# Altium footprint library PcbLib.PcbLib: 16 footprints
Each footprint in its own frame and in the unit in brackets; x right, y up, seen from the top. Pads: shape width x height; smd on the part's side, far side on the other; paste and mask are expansions set on the pad; w line width, h text height; cw(c..) or ccw(c..) is an arc to the next point about the centre after c.
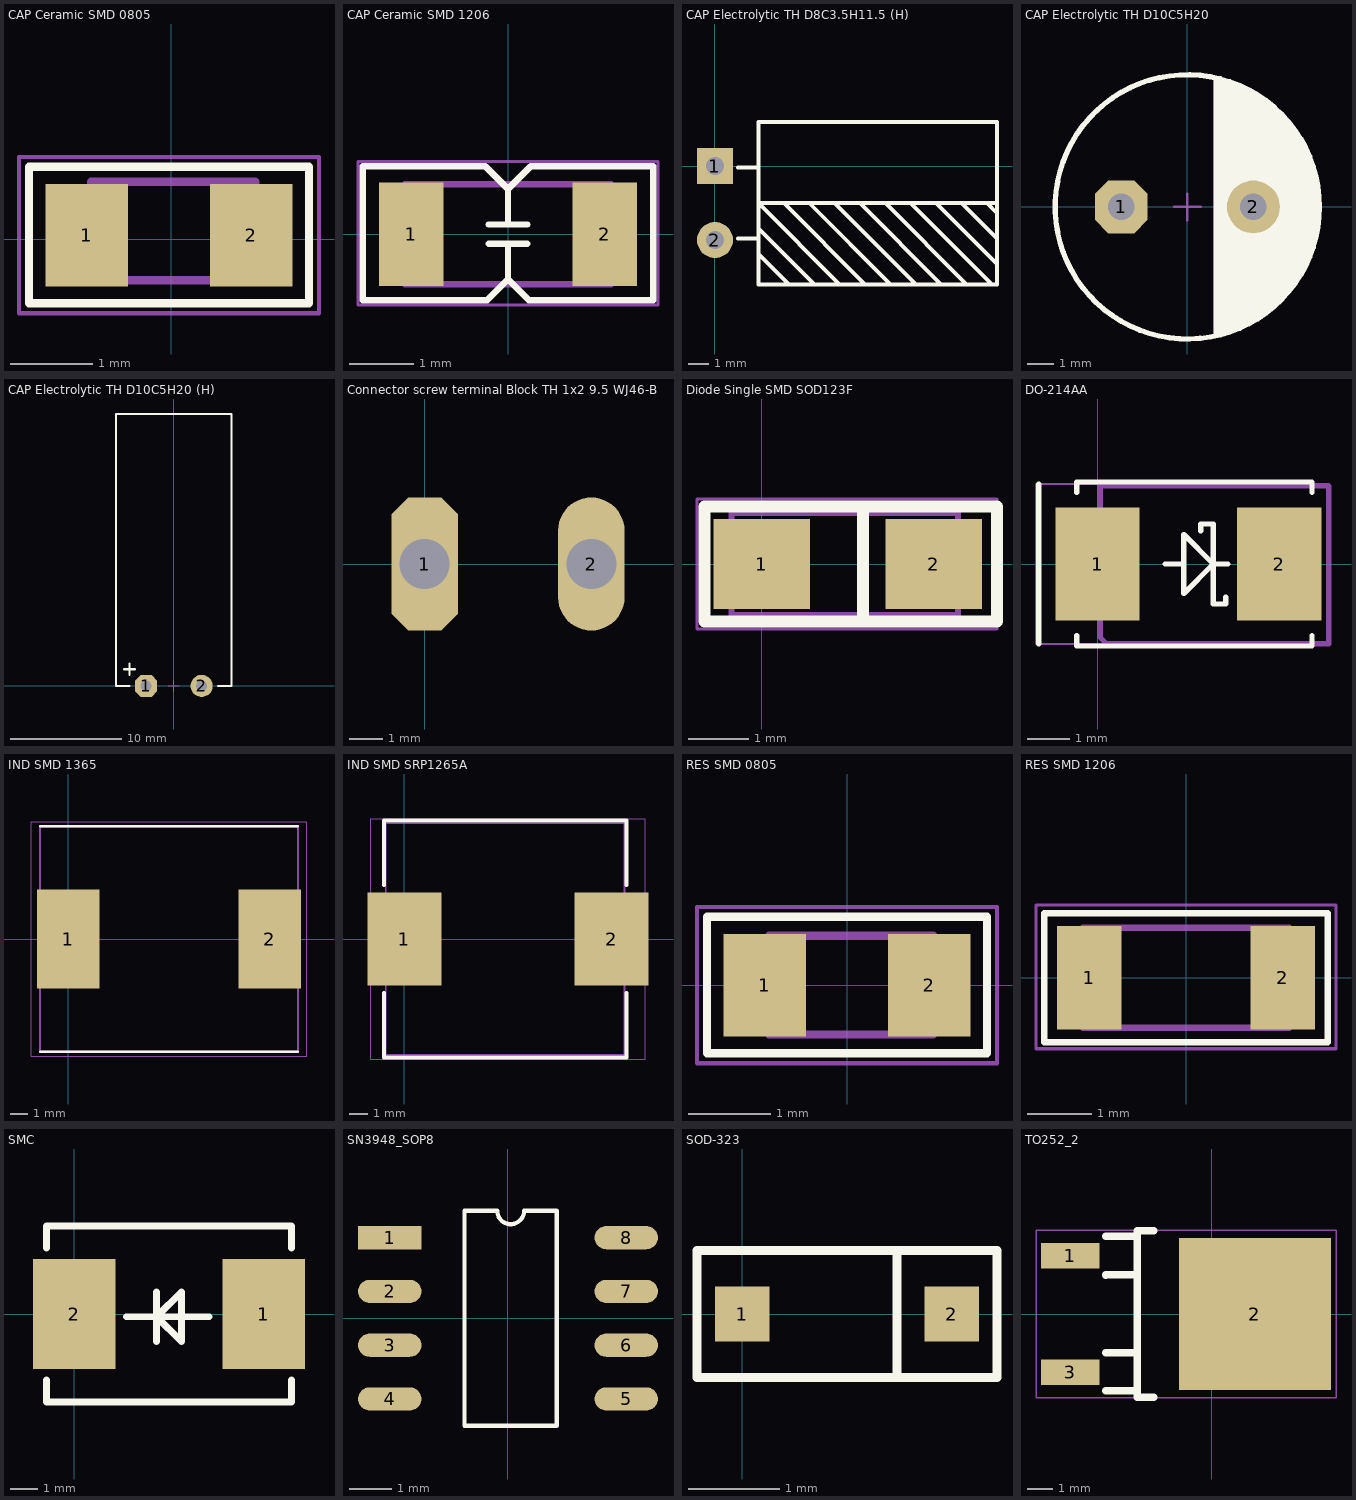
[diagram p0: the footprints below, top view; thin cyan lines are the x and y axes]

## CAP Ceramic SMD 0805 [mm]
height 0.45
pads (2):
  rect 1x1.25 smd: 1(-1.025,0.05) 2(0.975,0.05)
Top Overlay:
  lines w0.1: -1.727,-0.778 1.677,-0.778 1.677,0.881 -1.727,0.881 -1.727,-0.778
Top Designator:
  text ".Designator" at -1.125,-0.517 h1
Top 3D Body:
  lines w0.1: -0.974,-0.5 -0.974,0.7 1.025,0.7 1.025,-0.5 -0.974,-0.5
Top Courtyard:
  lines w0.05: -1.85,-0.9 -1.85,1 1.8,1 1.8,-0.9 -1.85,-0.9
3D body "SW3dPS-0805 SMD Capacitor.STEP": height 0.78, standoff 0, extent -1,-0.525 1,0.725

## CAP Ceramic SMD 1206 [mm]
height 0.6
pads (2):
  rect 1x1.6 smd: 1(-1.5,0) 2(1.5,0)
Top Overlay:
  lines w0.1: -0.3,-0.15 0.3,-0.15 ; -0.3,0.15 0.3,0.15 ; 0,-0.15 0,-0.7 ; 0,0.15 0,0.7 ; 0,-0.7 -0.325,-1.025 -2.25,-1.025 -2.25,1.05 -0.35,1.05 0,0.7 ; 0,-0.7 0.325,-1.025 2.25,-1.025 2.25,1.05 0.35,1.05 0,0.7
Top Designator:
  text ".Designator" at -1.5,-0.667 h1
Top 3D Body:
  lines w0.1: -1.6,-0.775 1.6,-0.775 1.6,0.775 -1.6,0.775 -1.6,-0.775
Top Courtyard:
  lines w0.05: -2.325,-1.1 -2.325,1.125 2.325,1.125 2.325,-1.1 -2.325,-1.1
3D body "SW3dPS-1206 SMD Capacitor.STEP": height 1, standoff 0, extent -1.6,-0.8 1.6,0.8

## CAP Electrolytic TH D8C3.5H11.5 (H) [mm]
pads (2):
  rect 1.8x1.8 hole 0.9: 1(0,0)
  round 1.8 hole 0.9: 2(0,-3.7)
Top Overlay:
  lines w0.2: 1.162,-3.628 2.178,-3.628 ; 1.162,-0.072 2.178,-0.072 ; 2.178,-4.39 3.702,-5.914 ; 2.178,-3.12 4.972,-5.914 ; 3.448,-1.85 7.512,-5.914 ; 4.718,-1.85 8.782,-5.914 ; 5.988,-1.85 10.052,-5.914 ; 6.242,-5.914 2.178,-1.85 14.116,-1.85 ; 7.258,-1.85 11.322,-5.914 ; 8.528,-1.85 12.592,-5.914 ; 9.798,-1.85 13.862,-5.914 ; 11.068,-1.85 14.116,-4.898 ; 12.338,-1.85 14.116,-3.628 ; 13.608,-1.85 14.116,-2.358 ; 2.178,-5.914 14.116,-5.914 14.116,2.214 2.178,2.214 2.178,-5.914
Top Designator:
  text ".Designator" at 1.556,-1.591 h1
3D body "CAP 3.5X8X11.5-H.STEP": height 8.03, standoff -2.62, extent -0.455,-5.899 13.255,2.1

## CAP Electrolytic TH D10C5H20 [mm]
height 20
pads (2):
  oct 2x2 hole 1: 1(-2.5,0)
  round 2 hole 1: 2(2.5,0)
Top Overlay:
  circle w0.2: c0,0 r5
  region: 1,-4.89 1,4.887 1.775,4.7 2.425,4.4 3,4 3.55,3.525 4.1,2.875 4.55,2.125 4.725,1.625 4.925,0.975 4.975,0.5 5,0 4.975,-0.5 4.825,-1.375 4.475,-2.25 4.2,-2.725 3.675,-3.425 3.2,-3.85 2.55,-4.275 1.875,-4.625 1.4,-4.8
Top Designator:
  text ".Designator" at -3.289,-0.094 h1
Top 3D Body:
  circle w0.1: c0,0 r5
  region: 1,-4.89 1,4.887 1.775,4.7 2.425,4.4 3,4 3.55,3.525 4.1,2.875 4.55,2.125 4.725,1.625 4.925,0.975 4.975,0.5 5,0 4.975,-0.5 4.825,-1.375 4.475,-2.25 4.2,-2.725 3.675,-3.425 3.2,-3.85 2.55,-4.275 1.875,-4.625 1.4,-4.8
Top Courtyard:
  circle w0.1: c0,0 r5
  lines w0.1: -0.5,0 0.5,0 ; 0,-0.5 0,0.5
3D body "User Library-CapAluRadial_D100H200.STEP": height 22, standoff -3, extent -5.25,-5.249 5.25,5.249

## CAP Electrolytic TH D10C5H20 (H) [mm]
height 20
pads (2):
  oct 2x2 hole 1: 1(-2.5,0)
  round 2 hole 1: 2(2.5,0)
Top Overlay:
  lines w0.2: -4.5,1.5 -3.5,1.5 ; -4,0 -5.2,0 -5.2,24.5 5.2,24.5 5.2,0 4,0 ; -4,1 -4,2
Top Designator:
  text ".Designator" at -2.4,-0.094 h1
Top Courtyard:
  lines w0.1: -0.5,0 0.5,0 ; 0,-0.5 0,0.5

## Connector screw terminal Block TH 1x2 9.5 WJ46-B [mm]
pads (2):
  oct 2x4 hole 1.5: 1(0,0)
  oval 2x4 hole 1.5: 2(5,0)
Top Designator:
  text ".Designator" at -5.218,-0.308 h1.52
Top 3D Body:
  text "2" at 4.6,-1.4 h2
  text "1" at -0.2,-0.6 h2

## Diode Single SMD SOD123F [mm]
height 1
pads (2):
  rect 1.6x1.5 smd: 1(0,0) 2(2.85,0)
Top Overlay:
  lines w0.2: 1.675,-0.9 1.675,0.925 ; -0.95,-0.95 3.9,-0.95 3.9,0.95 -0.95,0.95 -0.95,-0.95
Top Designator:
  text ".Designator" at -0.268,-0.783 h1.52
Top 3D Body:
  lines w0.1: 1.675,-0.85 1.675,0.85 ; -0.5,-0.85 3.25,-0.85 3.25,0.85 -0.5,0.85 -0.5,-0.85
Top Courtyard:
  lines w0.05: -1.075,-1.075 3.9,-1.075 3.9,1.075 -1.075,1.075 -1.075,-1.075
3D body "SOD123F.STEP": height 1.23, standoff 0.02, extent -0.5,-0.85 3.25,0.85

## DO-214AA [mm]
pads (2):
  rect 2x2.7 smd: 1(0,0) 2(4.32,0)
Top Overlay:
  lines w0.127: -1.4,-1.9 -1.4,1.9 ; -0.5,-1.7 -0.5,-1.953 5.1,-1.953 5.1,-1.7 ; -0.5,1.7 -0.5,1.953 5.1,1.953 5.1,1.7 ; 1.6,0 2.05,0 ; 2.453,0.791 2.45,0.794 2.45,0.95 2.75,0.95 ; 3.05,-0.789 3.05,-0.95 2.75,-0.95 2.75,0 ; 3.1,0 2.75,0 ; 2.05,0 2.05,-0.7 2.75,0 ; 2.05,0 2.05,0.7 ; 2.05,0 2.05,0.7 ; 2.05,0.7 2.75,0 ; 2.75,0 2.75,0.95 ; 2.75,0 2.75,0.95
Top Designator:
  text ".Designator" at -1.1,-0.314 h1.52
Top 3D Body:
  lines w0.127: 0.058,-1.743 0.215,-1.9 5.5,-1.9 5.5,1.857 0.058,1.857 0.058,-1.743
Top Courtyard:
  lines w0.05: -1.468,-1.902 1.008,-1.902 5.5,-1.902 ; -1.468,-1.9 -1.468,1.9 5.5,1.9 5.5,-1.9
3D body "D_SMB.step": height 2.15, standoff 0, extent -0.35,-1.8 4.95,1.75

## IND SMD 1365 [mm]
height 6.5
pads (2):
  rect 3.5x5.5 smd: 1(0,0) 2(11.25,0)
Top Overlay:
  lines w0.127: -1.575,-6.3 12.825,-6.3 ; -1.575,6.3 12.825,6.3
Top Component Outline:
  lines w0.127: -1.575,-6.3 12.825,-6.3 12.825,6.3 -1.575,6.3 -1.575,-6.3
Top Designator:
  text ".Designator" at 2.425,-0.314 h1.52
Top Courtyard:
  lines w0.05: -2.075,-6.55 13.325,-6.55 13.325,6.55 -2.075,6.55 -2.075,-6.55
3D body "step_temp.STEP": height 6.2, standoff -0.07, extent -1.195,-6.3 12.445,6.3

## IND SMD SRP1265A [mm]
pads (2):
  rect 4x5 smd: 1(0,0) 2(11.2,0)
Top Overlay:
  lines w0.2: -1.1,-2.9 -1.1,-6.4 12,-6.4 12,-2.9 ; -1.1,2.9 -1.1,6.4 12,6.4 12,2.9
  text ".Comment" at -1.359,7.013 h1.52
Top Designator:
  text ".Designator" at -0.618,-2.108 h1.52
Top 3D Body:
  lines w0.1: -1,-6.25 11.9,-6.25 11.9,6.25 -1,6.25 -1,-6.25
Top Courtyard:
  lines w0.05: -1.8,-6.5 13,-6.5 13,6.5 -1.8,6.5 -1.8,-6.5
3D body "SRP1265A series.stp": height 6.31, standoff 0, extent -1,-6.25 11.9,6.25

## RES SMD 0805 [mm]
height 0.45
pads (2):
  rect 1x1.25 smd: 1(-1,0) 2(1,0)
Top Overlay:
  lines w0.1: -1.702,-0.828 -1.702,0.831 1.702,0.831 1.702,-0.828 -1.702,-0.828
Top Designator:
  text ".Designator" at -1.1,-0.567 h1
Top 3D Body:
  lines w0.1: -0.949,-0.6 1.05,-0.6 1.05,0.6 -0.949,0.6 -0.949,-0.6
Top Courtyard:
  lines w0.05: -1.825,-0.95 1.825,-0.95 1.825,0.95 -1.825,0.95 -1.825,-0.95
3D body "chip_0805_r.STEP": height 0.48, standoff 0.02, extent -1,-0.6 1,0.6

## RES SMD 1206 [mm]
height 0.6
pads (2):
  rect 1x1.6 smd: 1(-1.5,0) 2(1.5,0)
Top Overlay:
  lines w0.1: -2.2,-1 -2.2,1 2.2,1 2.2,-1 -2.2,-1
Top Designator:
  text ".Designator" at -1.5,-0.667 h1
Top 3D Body:
  lines w0.1: -1.6,-0.775 -1.6,0.775 1.6,0.775 1.6,-0.775 -1.6,-0.775
Top Courtyard:
  lines w0.05: -2.325,-1.1 2.325,-1.1 2.325,1.125 -2.325,1.125 -2.325,-1.1
3D body "chip_1206_r.STEP": height 0.47, standoff -0.03, extent -1.65,-0.8 1.55,0.8

## SMC [mm]
pads (2):
  rect 3x4 smd mask+0.102: 1(6.9,0) 2(0,0)
Top Overlay:
  lines w0.254: -1,-2.4 -1,-3.2 7.9,-3.2 7.9,-2.4 ; -1,2.4 -1,3.2 7.7,3.2 7.9,3.2 7.9,2.4 ; 1.9,-0.1 3,-0.1 ; 3,-1 3,0.8 ; 3.2,-0.1 4.9,-0.1 ; 3,-0.1 3.9,0.8 3.9,-1 3,-0.1
3D body "D_SMC.step": height 2.31, standoff 0, extent -0.575,-2.95 7.425,2.95

## SN3948_SOP8 [mm]
pads (8):
  rect 1.5x0.55 smd: 1(-2.792,1.905)
  oval 1.5x0.55 smd: 2(-2.792,0.635) 3(-2.792,-0.635) 4(-2.792,-1.905) 5(2.793,-1.905) 6(2.793,-0.635) 7(2.793,0.635) 8(2.793,1.905)
Top Overlay:
  lines w0.1: -1.027,-2.54 1.154,-2.54 1.154,2.54 0.381,2.54 cw(c0.064,2.54) -0.254,2.54 -1.027,2.54 -1.027,-2.54
3D body "SO-8_3.9x4.9mm_P1.27mm.step": height 1.85, standoff 0, extent -2.996,-2.452 2.999,2.452

## SOD-323 [mm]
pads (2):
  rect 0.6x0.6 smd mask+0.102: 1(0,0) 2(2.3,0)
Top Overlay:
  lines w0.1: 1.7,-0.7 1.7,0.7 ; -0.5,-0.7 2.8,-0.7 2.8,0.7 -0.5,0.7 -0.5,-0.7
3D body "D_SOD-323.step": height 1.1, standoff 0, extent -0.113,-0.606 2.387,0.644

## TO252_2 [mm]
pads (3):
  rect 2.3x1 smd: 1(-5.6,2.3) 3(-5.6,-2.3)
  rect 6x6 smd: 2(1.7,0)
Top Overlay:
  lines w0.3: -4.191,-3.036 -2.975,-3.025 ; -4.191,-1.536 -2.95,-1.525 ; -4.191,1.539 -2.95,1.55 ; -4.191,3.064 -2.975,3.075 ; -2.294,-3.29 -2.95,-3.29 -2.95,3.29 -2.294,3.29
Top Designator:
  text ".Designator" at -6.094,0.508 h1.52
Top Courtyard:
  lines w0.05: 4.9,3.3 4.9,-3.3 3,-3.3 -6.95,-3.3 -6.95,3.315 4.9,3.315
3D body "TO252AA.STEP": height 2.3, standoff -0.01, extent -5.5,-3.29 4.2,3.29